# EAGLE library part 610X0621821 (library Wurth_Elektronik_Electromechanic_Board_to_Board_Connectors_rev16a)
WR-PHD 2.54mm Dual SMT Socket Header, 6 Pins=>Code : Con_BTB_SHD_2.54_1_SMT_610x0621821(packageing:x = 0: Tube x = 3: Tape & Reel with Cap; 600 pcs/Reel) <http://katalog.we-online.de/media/images/eican/Con_BTB_SHD_2.54_1_SMT_6100xx21821_pf2.jpg> 6100xx21821 Details see: http://katalog.we-online.de/en/em/610_0xx_218_21 6103xx21821 Details see: http://katalog.we-online.de/en/em/PHD_2_54_SMT_DUAL_SOCKET_HEADER_REEL_6103XX21821 2014 (C) Würth Elektronik
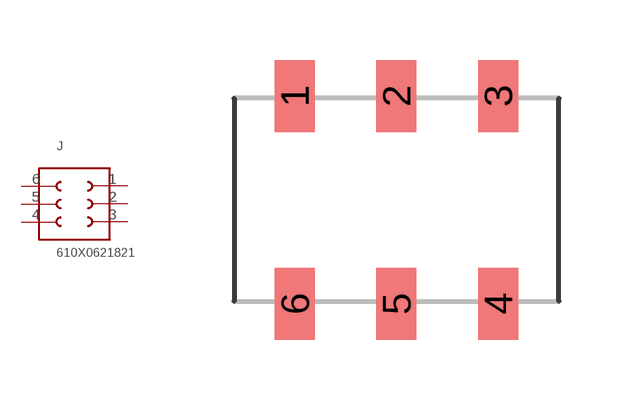
[diagram p212: symbol with the pads of 610X0621821; footprint 610X0621821]

Designator prefix J

## 610X0621821  [610X0621821]
1  1  pas
2  2  pas
3  3  pas
4  4  pas
5  5  pas
6  6  pas

## Footprint 610X0621821 (pad centres in mm)
WR-PHD 2.54mm Dual SMT Socket Header, 6 Pins
smd 1 x 1.8: 1 -2.54,2.6; 2 0,2.6; 3 2.54,2.6; 4 2.54,-2.6; 5 0,-2.6; 6 -2.54,-2.6